# EAGLE library part MCP2551T-E_SN (library SamacSys_Parts)
CAN Interface IC Hi Spd CAN Transceiv Source: Datasheet <https://componentsearchengine.com/Datasheets/1/MCP2551T-E_SN.pdf>
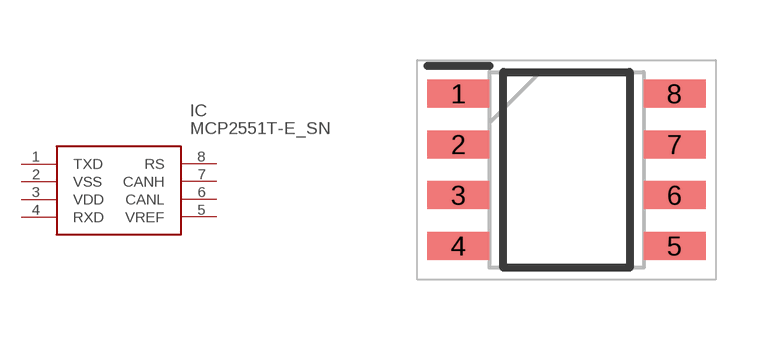
[diagram p1: symbol with the pads of SOIC127P600X175-8N; footprint SOIC127P600X175-8N]

Designator prefix IC

## MCP2551T-E_SN (Arrow_Part_Number: MCP2551T-E/SN; Arrow_Price-Stock: https://www.arrow.com/en/products/mcp2551t-esn/microchip-technology?utm_currency=USD&region=nac; Description: CAN Interface IC Hi Spd CAN Transceiv; Height: 1.75mm; Manufacturer_Name: Microchip; Manufacturer_Part_Number: MCP2551T-E/SN; Mouser_Part_Number: 579-MCP2551T-E/SN; Mouser_Price-Stock: https://www.mouser.co.uk/ProductDetail/Microchip-Technology/MCP2551T-E-SN?qs=gZwDaUDMhIcQtLtB%252B7bOWQ%3D%3D)  [SOIC127P600X175-8N]
1  TXD
2  VSS
3  VDD
4  RXD
5  VREF
6  CANL
7  CANH
8  RS

## Footprint SOIC127P600X175-8N (pad centres in mm)
(OA)8-Lead(SOIC)
smd 1.55 x 0.7: 1 -2.7,1.905; 2 -2.7,0.635; 3 -2.7,-0.635; 4 -2.7,-1.905; 5 2.7,-1.905; 6 2.7,-0.635; 7 2.7,0.635; 8 2.7,1.905